# EAGLE library part 6PIN (library mb3_headers)
0.1" (2.54mm) spacing Headers are used for connecting two boards together, but may fit some .1" (2.54mm) spaced header/connector packages. Pins: https://www.taydaelectronics.com/connectors-sockets/pin-headers/40-pin-2-54-mm-single-row-pin-header-strip.html?
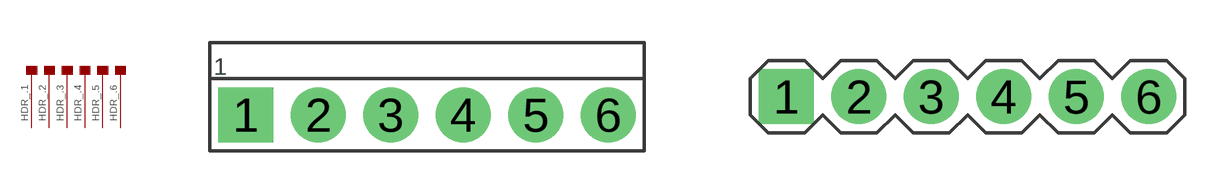
[diagram p0: symbol with the pads of 6-HDR; footprints 6-HDR, 6-PIN]

Designator prefix HDR_; gates .1=PIN .2=PIN .3=PIN .4=PIN .5=PIN .6=PIN

## 6PIN.HDR  [6-HDR]
1  .1:P
2  .2:P
3  .3:P
4  .4:P
5  .5:P
6  .6:P

## 6PIN.PIN  [6-PIN]
Pads as for 6-HDR

## Footprint 6-HDR (pad centres in mm)
drill 1.1 pad 1.93 square: 1 -6.35,0
drill 1.1 pad 1.93: 2 -3.81,0; 3 -1.27,0; 4 1.27,0; 5 3.81,0; 6 6.35,0

## Footprint 6-PIN (pad centres in mm)
drill 1.1 pad 1.93 square: 1 -6.35,0
drill 1.1 pad 1.93: 2 -3.81,0; 3 -1.27,0; 4 1.27,0; 5 3.81,0; 6 6.35,0